# EAGLE library part BGM121_DEV (library SI_BGM)
BGM121 - Blue Gecko BGM111 Bluetooth Smart� SiP Module Technical Specifications: Bluetooth 4.2 compliant Configurable TX power up to +8 dBm Range up to 200 meters ARM� Cortex-M4 @ up to 38.4 MHz Arrow: BGM121A256V1 <https://www.arrow.com/en/products/search?q=bgm121> Digikey: 336-3811-1-ND <https://www.digikey.com/product-search/en/rf-if-and-rfid/rf-transceiver-modules/3539948?k=bgm121> Mouser: 634-BGM121A256V1 <http://www.mouser.com/Search/Refine.aspx?Keyword=bgm121>
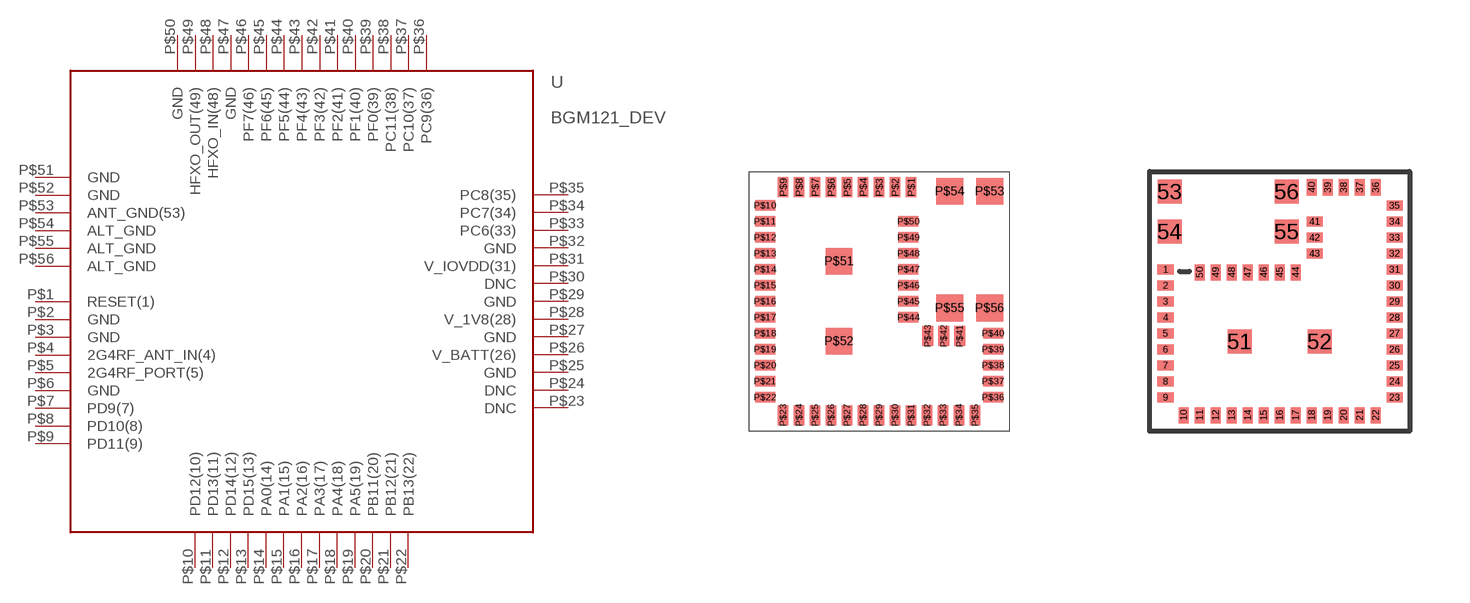
[diagram p0: symbol with the pads of BGM121_PAC; footprints BGM121_PAC, BGM12X_ALT]

Designator prefix -

## BGM121_DEV  [BGM121_PAC]
P$1  RESET(1)  in
P$2  GND  pwr
P$3  GND  pwr
P$4  2G4RF_ANT_IN(4)  in
P$5  2G4RF_PORT(5)  in
P$6  GND  pwr
P$7  PD9(7)
P$8  PD10(8)
P$9  PD11(9)
P$10  PD12(10)
P$11  PD13(11)
P$12  PD14(12)
P$13  PD15(13)
P$14  PA0(14)
P$15  PA1(15)
P$16  PA2(16)
P$17  PA3(17)
P$18  PA4(18)
P$19  PA5(19)
P$20  PB11(20)
P$21  PB12(21)
P$22  PB13(22)
P$23  DNC  nc
P$24  DNC  nc
P$25  GND  pwr
P$26  V_BATT(26)  pwr
P$27  GND  pwr
P$28  V_1V8(28)  pwr
P$29  GND  pwr
P$30  DNC  nc
P$31  V_IOVDD(31)  pwr
P$32  GND  pwr
P$33  PC6(33)
P$34  PC7(34)
P$35  PC8(35)
P$36  PC9(36)
P$37  PC10(37)
P$38  PC11(38)
P$39  PF0(39)
P$40  PF1(40)
P$41  PF2(41)
P$42  PF3(42)
P$43  PF4(43)
P$44  PF5(44)
P$45  PF6(45)
P$46  PF7(46)
P$47  GND  pwr
P$48  HFXO_IN(48)  in
P$49  HFXO_OUT(49)  out
P$50  GND  pwr
P$51  GND  pwr
P$52  GND  pwr
P$53  ANT_GND(53)  pwr
P$54  ALT_GND  pwr
P$55  ALT_GND  pwr
P$56  ALT_GND  pwr

## BGM121_DEVBGM121_ALT  [BGM12X_ALT]
1  RESET(1)  in
2  GND  pwr
3  GND  pwr
4  2G4RF_ANT_IN(4)  in
5  2G4RF_PORT(5)  in
6  GND  pwr
7  PD9(7)
8  PD10(8)
9  PD11(9)
10  PD12(10)
11  PD13(11)
12  PD14(12)
13  PD15(13)
14  PA0(14)
15  PA1(15)
16  PA2(16)
17  PA3(17)
18  PA4(18)
19  PA5(19)
20  PB11(20)
21  PB12(21)
22  PB13(22)
23  DNC  nc
24  DNC  nc
25  GND  pwr
26  V_BATT(26)  pwr
27  GND  pwr
28  V_1V8(28)  pwr
29  GND  pwr
30  DNC  nc
31  V_IOVDD(31)  pwr
32  GND  pwr
33  PC6(33)
34  PC7(34)
35  PC8(35)
36  PC9(36)
37  PC10(37)
38  PC11(38)
39  PF0(39)
40  PF1(40)
41  PF2(41)
42  PF3(42)
43  PF4(43)
44  PF5(44)
45  PF6(45)
46  PF7(46)
47  GND  pwr
48  HFXO_IN(48)  in
49  HFXO_OUT(49)  out
50  GND  pwr
51  GND  pwr
52  GND  pwr
53  ANT_GND(53)  pwr
54  ALT_GND  pwr
55  ALT_GND  pwr
56  ALT_GND  pwr

## BGM121_DEVBGM121NN  [BGM121N]
Pads as for BGM121_PAC

## Footprint BGM121_PAC (pad centres in mm)
smd 0.27 x 0.5: P$1 3.65,5.7; P$2 3.25,5.7; P$3 2.85,5.7; P$4 2.45,5.7; P$5 2.05,5.7; P$6 1.65,5.7; P$7 1.25,5.7; P$8 0.85,5.7; P$9 0.45,5.7; P$23 0.45,0; P$24 0.85,0; P$25 1.25,0; P$26 1.65,0; P$27 2.05,0; P$28 2.45,0; P$29 2.85,0; P$30 3.25,0; P$31 3.65,0; P$32 4.05,0; P$33 4.45,0; P$34 4.85,0; P$35 5.25,0; P$41 4.865,1.98; P$42 4.465,1.98; P$43 4.065,1.98
smd 0.5 x 0.27: P$10 0,5.25; P$11 0,4.85; P$12 0,4.45; P$13 0,4.05; P$14 0,3.65; P$15 0,3.25; P$16 0,2.85; P$17 0,2.45; P$18 0,2.05; P$19 0,1.65; P$20 0,1.25; P$21 0,0.85; P$22 0,0.45; P$36 5.7,0.45; P$37 5.7,0.85; P$38 5.7,1.25; P$39 5.7,1.65; P$40 5.7,2.05; P$44 3.585,2.45; P$45 3.585,2.85; P$46 3.585,3.25; P$47 3.585,3.65; P$48 3.585,4.05; P$49 3.585,4.45; P$50 3.585,4.85
smd 0.67 x 0.67: P$51 1.85,3.85; P$52 1.85,1.85; P$53 5.615,5.6; P$54 4.615,5.6; P$55 4.615,2.68; P$56 5.615,2.68

## Footprint BGM12X_ALT (pad centres in mm)
smd 0.4 x 0.25: 1 -2.85,1.05; 2 -2.85,0.65; 3 -2.85,0.25; 4 -2.85,-0.15; 5 -2.85,-0.55; 6 -2.85,-0.95; 7 -2.85,-1.35; 8 -2.85,-1.75; 9 -2.85,-2.15; 23 2.875,-2.15; 24 2.875,-1.75; 25 2.875,-1.35; 26 2.875,-0.95; 27 2.875,-0.55; 28 2.875,-0.15; 29 2.875,0.25; 30 2.875,0.65; 31 2.875,1.05; 32 2.875,1.45; 33 2.875,1.85; 34 2.875,2.25; 35 2.875,2.65; 41 0.875,2.25; 42 0.875,1.85; 43 0.875,1.45
smd 0.25 x 0.4: 10 -2.4,-2.6; 11 -2,-2.6; 12 -1.6,-2.6; 13 -1.2,-2.6; 14 -0.8,-2.6; 15 -0.4,-2.6; 16 0,-2.6; 17 0.4,-2.6; 18 0.8,-2.6; 19 1.2,-2.6; 20 1.6,-2.6; 21 2,-2.6; 22 2.4,-2.6; 36 2.4,3.1; 37 2,3.1; 38 1.6,3.1; 39 1.2,3.1; 40 0.8,3.1; 44 0.4,0.975; 45 0,0.975; 46 -0.4,0.975; 47 -0.8,0.975; 48 -1.2,0.975; 49 -1.6,0.975; 50 -2,0.975
smd 0.6 x 0.6: 51 -1,-0.75; 52 1,-0.75; 53 -2.75,3; 54 -2.75,2; 55 0.175,2; 56 0.175,3

## Footprint BGM121N (pad centres in mm)
smd 0.27 x 0.5: P$1 3.65,5.7; P$2 3.25,5.7; P$3 2.85,5.7; P$4 2.45,5.7; P$5 2.05,5.7; P$6 1.65,5.7; P$7 1.25,5.7; P$8 0.85,5.7; P$9 0.45,5.7; P$23 0.45,0; P$24 0.85,0; P$25 1.25,0; P$26 1.65,0; P$27 2.05,0; P$28 2.45,0; P$29 2.85,0; P$30 3.25,0; P$31 3.65,0; P$32 4.05,0; P$33 4.45,0; P$34 4.85,0; P$35 5.25,0; P$41 4.865,1.98; P$42 4.465,1.98; P$43 4.065,1.98
smd 0.5 x 0.27: P$10 0,5.25; P$11 0,4.85; P$12 0,4.45; P$13 0,4.05; P$14 0,3.65; P$15 0,3.25; P$16 0,2.85; P$17 0,2.45; P$18 0,2.05; P$19 0,1.65; P$20 0,1.25; P$21 0,0.85; P$22 0,0.45; P$36 5.7,0.45; P$37 5.7,0.85; P$38 5.7,1.25; P$39 5.7,1.65; P$40 5.7,2.05; P$44 3.585,2.45; P$45 3.585,2.85; P$46 3.585,3.25; P$47 3.585,3.65; P$48 3.585,4.05; P$49 3.585,4.45; P$50 3.585,4.85
smd 0.67 x 0.67: P$51 1.85,3.85; P$52 1.85,1.85; P$53 5.615,5.6; P$54 4.615,5.6; P$55 4.615,2.68; P$56 5.615,2.68